# Altium integrated library ON Semi Zener Diodes.IntLib: 1366 symbols (part 17 of 29)
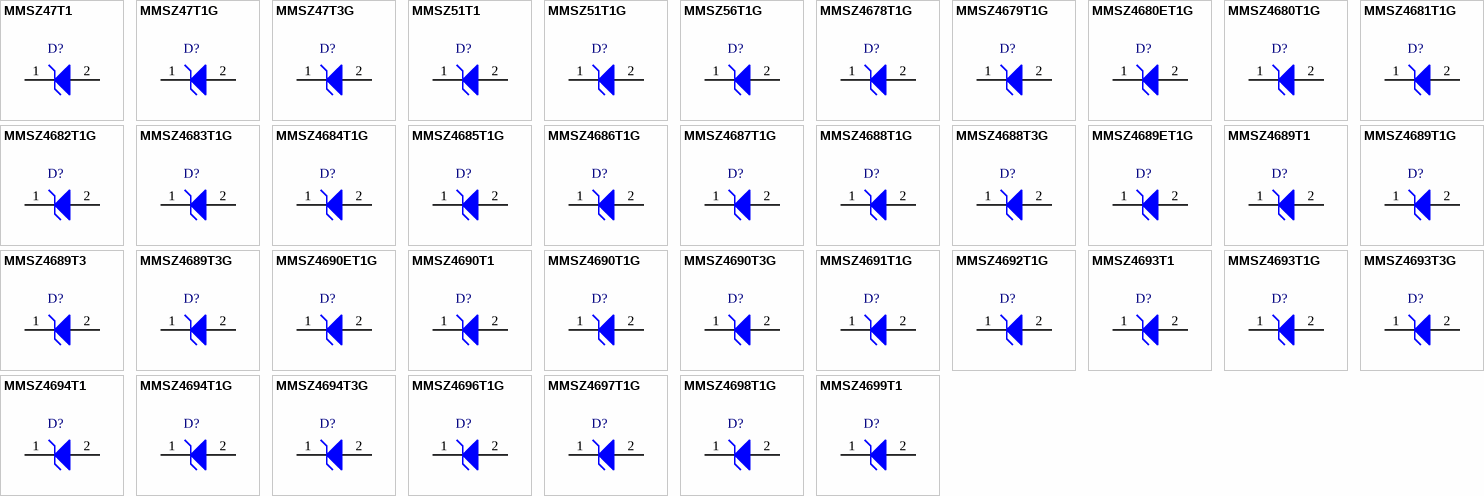
[diagram p60: symbols MMSZ47T1 to MMSZ4699T1]

## MMSZ4698T1G
designator D?
Zener Voltage Regulator, 500 mW, 2-Pin SOD-123, Pb-Free, Tape and Reel; Manufacturer: On Semiconductor; PartNumber: MMSZ4698T1G; P Max (W): 0.5; VZ Typ (V): 11; DatasheetVersion: Rev. 9; PackageVersion: Rev. G, 10/2009; PackageReference: SOD-123-2-425-04; PackageDescription: 2-Pin SOD, Body 1.6 x 2.69 mm; Supplier 1: Digi-Key; Supplier Part Number 1: MMSZ4698T1GOSTR-ND; Supplier 2: Digi-Key; Supplier Part Number 2: MMSZ4698T1GOSCT-ND; Supplier 3: Digi-Key; Supplier Part Number 3: MMSZ4698T1GOSDKR-ND; Supplier 4: Newark; Supplier Part Number 4: 26K4577; Supplier 5: Newark; Supplier Part Number 5: 10N9500; Supplier 6: Mouser; Supplier Part Number 6: 863-MMSZ4698T1G; Packing: Tape and Reel; RoHS: Pb-Free; Mounting Technology: Surface Mount; ComponentLink1Description: Manufacturer URL; ComponentLink1URL: http://www.onsemi.com/; ComponentLink2Description: Datasheet; ComponentLink2URL: http://www.onsemi.com/pub_link/Collateral/MMSZ4678T1-D.PDF; ComponentLink3Description: Package Specification; ComponentLink3URL: http://www.onsemi.com/pub_link/Collateral/425-04.PDF
footprint ONSC-SOD-123-2-425-04_V (SOD, 2-Leads, Body 2.69x1.6mm)
pins: 1 K, 2 A

## MMSZ4699T1
designator D?
Zener Voltage Regulator, 500 mW, 2-Pin SOD-123, Tape and Reel; Manufacturer: On Semiconductor; PartNumber: MMSZ4699T1; P Max (W): 0.5; VZ Typ (V): 12; DatasheetVersion: Rev. 9; PackageVersion: Rev. G, 10/2009; PackageReference: SOD-123-2-425-04; PackageDescription: 2-Pin SOD, Body 1.6 x 2.69 mm; Supplier 1: Digi-Key; Supplier Part Number 1: MMSZ4699T1OSCT-ND; Packing: Tape and Reel; Mounting Technology: Surface Mount; ComponentLink1Description: Manufacturer URL; ComponentLink1URL: http://www.onsemi.com/; ComponentLink2Description: Datasheet; ComponentLink2URL: http://www.onsemi.com/pub_link/Collateral/MMSZ4678T1-D.PDF; ComponentLink3Description: Package Specification; ComponentLink3URL: http://www.onsemi.com/pub_link/Collateral/425-04.PDF
footprint ONSC-SOD-123-2-425-04_V (SOD, 2-Leads, Body 2.69x1.6mm)
pins: 1 K, 2 A

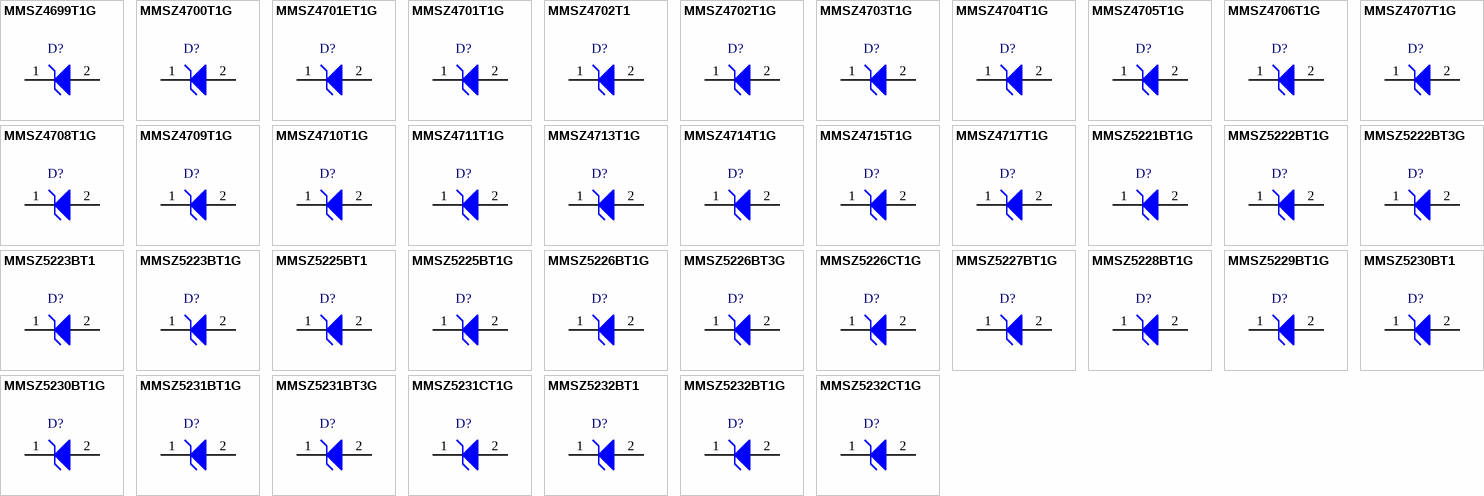
[diagram p24: symbols MMSZ4699T1G to MMSZ5232CT1G]

## MMSZ4699T1G
designator D?
Zener Voltage Regulator, 500 mW, 2-Pin SOD-123, Pb-Free, Tape and Reel; Manufacturer: On Semiconductor; PartNumber: MMSZ4699T1G; P Max (W): 0.5; VZ Typ (V): 12; DatasheetVersion: Rev. 9; PackageVersion: Rev. G, 10/2009; PackageReference: SOD-123-2-425-04; PackageDescription: 2-Pin SOD, Body 1.6 x 2.69 mm; Supplier 1: Digi-Key; Supplier Part Number 1: MMSZ4699T1GOSTR-ND; Supplier 2: Digi-Key; Supplier Part Number 2: MMSZ4699T1GOSCT-ND; Supplier 3: Digi-Key; Supplier Part Number 3: MMSZ4699T1GOSDKR-ND; Supplier 4: Farnell; Supplier Part Number 4: 1651593; Supplier 5: Farnell; Supplier Part Number 5: 1651593RL; Supplier 6: Farnell; Supplier Part Number 6: 2370824; Supplier 7: Newark; Supplier Part Number 7: 45J1585; Supplier 8: Newark; Supplier Part Number 8: 67R1366; Supplier 9: Mouser; Supplier Part Number 9: 863-MMSZ4699T1G; Packing: Tape and Reel; RoHS: Pb-Free; Mounting Technology: Surface Mount; ComponentLink1Description: Manufacturer URL; ComponentLink1URL: http://www.onsemi.com/; ComponentLink2Description: Datasheet; ComponentLink2URL: http://www.onsemi.com/pub_link/Collateral/MMSZ4678T1-D.PDF; ComponentLink3Description: Package Specification; ComponentLink3URL: http://www.onsemi.com/pub_link/Collateral/425-04.PDF
footprint ONSC-SOD-123-2-425-04_V (SOD, 2-Leads, Body 2.69x1.6mm)
pins: 1 K, 2 A

## MMSZ4700T1G
designator D?
Zener Voltage Regulator, 500 mW, 2-Pin SOD-123, Pb-Free, Tape and Reel; Manufacturer: On Semiconductor; PartNumber: MMSZ4700T1G; P Max (W): 0.5; VZ Typ (V): 13; DatasheetVersion: Rev. 9; PackageVersion: Rev. G, 10/2009; PackageReference: SOD-123-2-425-04; PackageDescription: 2-Pin SOD, Body 1.6 x 2.69 mm; Supplier 1: Digi-Key; Supplier Part Number 1: MMSZ4700T1GOSTR-ND; Supplier 2: Digi-Key; Supplier Part Number 2: MMSZ4700T1GOSCT-ND; Supplier 3: Digi-Key; Supplier Part Number 3: MMSZ4700T1GOSDKR-ND; Supplier 4: Newark; Supplier Part Number 4: 10N9501; Supplier 5: Newark; Supplier Part Number 5: 26K4578; Supplier 6: Mouser; Supplier Part Number 6: 863-MMSZ4700T1G; Packing: Tape and Reel; RoHS: Pb-Free; Mounting Technology: Surface Mount; ComponentLink1Description: Manufacturer URL; ComponentLink1URL: http://www.onsemi.com/; ComponentLink2Description: Datasheet; ComponentLink2URL: http://www.onsemi.com/pub_link/Collateral/MMSZ4678T1-D.PDF; ComponentLink3Description: Package Specification; ComponentLink3URL: http://www.onsemi.com/pub_link/Collateral/425-04.PDF
footprint ONSC-SOD-123-2-425-04_V (SOD, 2-Leads, Body 2.69x1.6mm)
pins: 1 K, 2 A

## MMSZ4701ET1G
designator D?
Zener Voltage Regulator, 500 mW, 2-Pin SOD-123, Pb-Free, Tape and Reel; Manufacturer: On Semiconductor; PartNumber: MMSZ4701ET1G; P Max (W): 0.5; VZ Typ (V): 14; DatasheetVersion: Rev. 6; PackageVersion: Rev. G, 10/2009; PackageReference: SOD-123-2-425-04; PackageDescription: 2-Pin SOD, Body 1.6 x 2.69 mm; Supplier 1: Digi-Key; Supplier Part Number 1: MMSZ4701ET1GOSTR-ND; Supplier 2: Digi-Key; Supplier Part Number 2: MMSZ4701ET1GOSCT-ND; Supplier 3: Mouser; Supplier Part Number 3: 863-MMSZ4701ET1G; Packing: Tape and Reel; RoHS: Pb-Free; Mounting Technology: Surface Mount; ComponentLink1Description: Manufacturer URL; ComponentLink1URL: http://www.onsemi.com/; ComponentLink2Description: Datasheet; ComponentLink2URL: http://www.onsemi.com/pub_link/Collateral/MMSZ4678ET1-D.PDF; ComponentLink3Description: Package Specification; ComponentLink3URL: http://www.onsemi.com/pub_link/Collateral/425-04.PDF
footprint ONSC-SOD-123-2-425-04_V (SOD, 2-Leads, Body 2.69x1.6mm)
pins: 1 K, 2 A

## MMSZ4701T1G
designator D?
Zener Voltage Regulator, 500 mW, 2-Pin SOD-123, Pb-Free, Tape and Reel; Manufacturer: On Semiconductor; PartNumber: MMSZ4701T1G; P Max (W): 0.5; VZ Typ (V): 14; DatasheetVersion: Rev. 9; PackageVersion: Rev. G, 10/2009; PackageReference: SOD-123-2-425-04; PackageDescription: 2-Pin SOD, Body 1.6 x 2.69 mm; Supplier 1: Digi-Key; Supplier Part Number 1: MMSZ4701T1GOSTR-ND; Supplier 2: Digi-Key; Supplier Part Number 2: MMSZ4701T1GOSCT-ND; Supplier 3: Digi-Key; Supplier Part Number 3: MMSZ4701T1GOSDKR-ND; Supplier 4: Newark; Supplier Part Number 4: 10N9502; Supplier 5: Newark; Supplier Part Number 5: 83H7402; Supplier 6: Mouser; Supplier Part Number 6: 863-MMSZ4701T1G; Packing: Tape and Reel; RoHS: Pb-Free; Mounting Technology: Surface Mount; ComponentLink1Description: Manufacturer URL; ComponentLink1URL: http://www.onsemi.com/; ComponentLink2Description: Datasheet; ComponentLink2URL: http://www.onsemi.com/pub_link/Collateral/MMSZ4678T1-D.PDF; ComponentLink3Description: Package Specification; ComponentLink3URL: http://www.onsemi.com/pub_link/Collateral/425-04.PDF
footprint ONSC-SOD-123-2-425-04_V (SOD, 2-Leads, Body 2.69x1.6mm)
pins: 1 K, 2 A

## MMSZ4702T1
designator D?
Zener Voltage Regulator, 500 mW, 2-Pin SOD-123, Tape and Reel; Manufacturer: On Semiconductor; PartNumber: MMSZ4702T1; P Max (W): 0.5; VZ Typ (V): 15; DatasheetVersion: Rev. 9; PackageVersion: Rev. G, 10/2009; PackageReference: SOD-123-2-425-04; PackageDescription: 2-Pin SOD, Body 1.6 x 2.69 mm; Supplier 1: Digi-Key; Supplier Part Number 1: MMSZ4702T1OSCT-ND; Packing: Tape and Reel; Mounting Technology: Surface Mount; ComponentLink1Description: Manufacturer URL; ComponentLink1URL: http://www.onsemi.com/; ComponentLink2Description: Datasheet; ComponentLink2URL: http://www.onsemi.com/pub_link/Collateral/MMSZ4678T1-D.PDF; ComponentLink3Description: Package Specification; ComponentLink3URL: http://www.onsemi.com/pub_link/Collateral/425-04.PDF
footprint ONSC-SOD-123-2-425-04_V (SOD, 2-Leads, Body 2.69x1.6mm)
pins: 1 K, 2 A

## MMSZ4702T1G
designator D?
Zener Voltage Regulator, 500 mW, 2-Pin SOD-123, Pb-Free, Tape and Reel; Manufacturer: On Semiconductor; PartNumber: MMSZ4702T1G; P Max (W): 0.5; VZ Typ (V): 15; DatasheetVersion: Rev. 9; PackageVersion: Rev. G, 10/2009; PackageReference: SOD-123-2-425-04; PackageDescription: 2-Pin SOD, Body 1.6 x 2.69 mm; Supplier 1: Digi-Key; Supplier Part Number 1: MMSZ4702T1GOSTR-ND; Supplier 2: Digi-Key; Supplier Part Number 2: MMSZ4702T1GOSCT-ND; Supplier 3: Digi-Key; Supplier Part Number 3: MMSZ4702T1GOSDKR-ND; Supplier 4: Farnell; Supplier Part Number 4: 2101824; Supplier 5: Newark; Supplier Part Number 5: 71J6027; Supplier 6: Mouser; Supplier Part Number 6: 863-MMSZ4702T1G; Packing: Tape and Reel; RoHS: Pb-Free; Mounting Technology: Surface Mount; ComponentLink1Description: Manufacturer URL; ComponentLink1URL: http://www.onsemi.com/; ComponentLink2Description: Datasheet; ComponentLink2URL: http://www.onsemi.com/pub_link/Collateral/MMSZ4678T1-D.PDF; ComponentLink3Description: Package Specification; ComponentLink3URL: http://www.onsemi.com/pub_link/Collateral/425-04.PDF
footprint ONSC-SOD-123-2-425-04_V (SOD, 2-Leads, Body 2.69x1.6mm)
pins: 1 K, 2 A

## MMSZ4703T1G
designator D?
Zener Voltage Regulator, 500 mW, 2-Pin SOD-123, Pb-Free, Tape and Reel; Manufacturer: On Semiconductor; PartNumber: MMSZ4703T1G; P Max (W): 0.5; VZ Typ (V): 16; DatasheetVersion: Rev. 9; PackageVersion: Rev. G, 10/2009; PackageReference: SOD-123-2-425-04; PackageDescription: 2-Pin SOD, Body 1.6 x 2.69 mm; Supplier 1: Digi-Key; Supplier Part Number 1: MMSZ4703T1GOSTR-ND; Supplier 2: Digi-Key; Supplier Part Number 2: MMSZ4703T1GOSCT-ND; Supplier 3: Digi-Key; Supplier Part Number 3: MMSZ4703T1GOSDKR-ND; Supplier 4: Farnell; Supplier Part Number 4: 1183550; Supplier 5: Newark; Supplier Part Number 5: 71J6028; Supplier 6: Mouser; Supplier Part Number 6: 863-MMSZ4703T1G; Packing: Tape and Reel; RoHS: Pb-Free; Mounting Technology: Surface Mount; ComponentLink1Description: Manufacturer URL; ComponentLink1URL: http://www.onsemi.com/; ComponentLink2Description: Datasheet; ComponentLink2URL: http://www.onsemi.com/pub_link/Collateral/MMSZ4678T1-D.PDF; ComponentLink3Description: Package Specification; ComponentLink3URL: http://www.onsemi.com/pub_link/Collateral/425-04.PDF
footprint ONSC-SOD-123-2-425-04_V (SOD, 2-Leads, Body 2.69x1.6mm)
pins: 1 K, 2 A

## MMSZ4704T1G
designator D?
Zener Voltage Regulator, 500 mW, 2-Pin SOD-123, Pb-Free, Tape and Reel; Manufacturer: On Semiconductor; PartNumber: MMSZ4704T1G; P Max (W): 0.5; VZ Typ (V): 17; DatasheetVersion: Rev. 9; PackageVersion: Rev. G, 10/2009; PackageReference: SOD-123-2-425-04; PackageDescription: 2-Pin SOD, Body 1.6 x 2.69 mm; Supplier 1: Digi-Key; Supplier Part Number 1: MMSZ4704T1GOSTR-ND; Supplier 2: Digi-Key; Supplier Part Number 2: MMSZ4704T1GOSCT-ND; Supplier 3: Digi-Key; Supplier Part Number 3: MMSZ4704T1GOSDKR-ND; Supplier 4: Newark; Supplier Part Number 4: 10N9503; Supplier 5: Newark; Supplier Part Number 5: 83H7403; Supplier 6: Mouser; Supplier Part Number 6: 863-MMSZ4704T1G; Packing: Tape and Reel; RoHS: Pb-Free; Mounting Technology: Surface Mount; ComponentLink1Description: Manufacturer URL; ComponentLink1URL: http://www.onsemi.com/; ComponentLink2Description: Datasheet; ComponentLink2URL: http://www.onsemi.com/pub_link/Collateral/MMSZ4678T1-D.PDF; ComponentLink3Description: Package Specification; ComponentLink3URL: http://www.onsemi.com/pub_link/Collateral/425-04.PDF
footprint ONSC-SOD-123-2-425-04_V (SOD, 2-Leads, Body 2.69x1.6mm)
pins: 1 K, 2 A

## MMSZ4705T1G
designator D?
Zener Voltage Regulator, 500 mW, 2-Pin SOD-123, Pb-Free, Tape and Reel; Manufacturer: On Semiconductor; PartNumber: MMSZ4705T1G; P Max (W): 0.5; VZ Typ (V): 18; DatasheetVersion: Rev. 9; PackageVersion: Rev. G, 10/2009; PackageReference: SOD-123-2-425-04; PackageDescription: 2-Pin SOD, Body 1.6 x 2.69 mm; Supplier 1: Digi-Key; Supplier Part Number 1: MMSZ4705T1GOSTR-ND; Supplier 2: Digi-Key; Supplier Part Number 2: MMSZ4705T1GOSCT-ND; Supplier 3: Digi-Key; Supplier Part Number 3: MMSZ4705T1GOSDKR-ND; Supplier 4: Newark; Supplier Part Number 4: 10N9504; Supplier 5: Newark; Supplier Part Number 5: 26K4580; Supplier 6: Mouser; Supplier Part Number 6: 863-MMSZ4705T1G; Packing: Tape and Reel; RoHS: Pb-Free; Mounting Technology: Surface Mount; ComponentLink1Description: Manufacturer URL; ComponentLink1URL: http://www.onsemi.com/; ComponentLink2Description: Datasheet; ComponentLink2URL: http://www.onsemi.com/pub_link/Collateral/MMSZ4678T1-D.PDF; ComponentLink3Description: Package Specification; ComponentLink3URL: http://www.onsemi.com/pub_link/Collateral/425-04.PDF
footprint ONSC-SOD-123-2-425-04_V (SOD, 2-Leads, Body 2.69x1.6mm)
pins: 1 K, 2 A

## MMSZ4706T1G
designator D?
Zener Voltage Regulator, 500 mW, 2-Pin SOD-123, Pb-Free, Tape and Reel; Manufacturer: On Semiconductor; PartNumber: MMSZ4706T1G; P Max (W): 0.5; VZ Typ (V): 19; DatasheetVersion: Rev. 9; PackageVersion: Rev. G, 10/2009; PackageReference: SOD-123-2-425-04; PackageDescription: 2-Pin SOD, Body 1.6 x 2.69 mm; Supplier 1: Digi-Key; Supplier Part Number 1: MMSZ4706T1GOSTR-ND; Supplier 2: Digi-Key; Supplier Part Number 2: MMSZ4706T1GOSCT-ND; Supplier 3: Digi-Key; Supplier Part Number 3: MMSZ4706T1GOSDKR-ND; Supplier 4: Farnell; Supplier Part Number 4: 1887090; Supplier 5: Newark; Supplier Part Number 5: 09R9483; Supplier 6: Newark; Supplier Part Number 6: 26K4581; Supplier 7: Mouser; Supplier Part Number 7: 863-MMSZ4706T1G; Packing: Tape and Reel; RoHS: Pb-Free; Mounting Technology: Surface Mount; ComponentLink1Description: Manufacturer URL; ComponentLink1URL: http://www.onsemi.com/; ComponentLink2Description: Datasheet; ComponentLink2URL: http://www.onsemi.com/pub_link/Collateral/MMSZ4678T1-D.PDF; ComponentLink3Description: Package Specification; ComponentLink3URL: http://www.onsemi.com/pub_link/Collateral/425-04.PDF
footprint ONSC-SOD-123-2-425-04_V (SOD, 2-Leads, Body 2.69x1.6mm)
pins: 1 K, 2 A

## MMSZ4707T1G
designator D?
Zener Voltage Regulator, 500 mW, 2-Pin SOD-123, Pb-Free, Tape and Reel; Manufacturer: On Semiconductor; PartNumber: MMSZ4707T1G; P Max (W): 0.5; VZ Typ (V): 20; DatasheetVersion: Rev. 9; PackageVersion: Rev. G, 10/2009; PackageReference: SOD-123-2-425-04; PackageDescription: 2-Pin SOD, Body 1.6 x 2.69 mm; Supplier 1: Digi-Key; Supplier Part Number 1: MMSZ4707T1GOSTR-ND; Supplier 2: Digi-Key; Supplier Part Number 2: MMSZ4707T1GOSCT-ND; Supplier 3: Digi-Key; Supplier Part Number 3: MMSZ4707T1GOSDKR-ND; Supplier 4: Newark; Supplier Part Number 4: 10N9505; Supplier 5: Mouser; Supplier Part Number 5: 863-MMSZ4707T1G; Packing: Tape and Reel; RoHS: Pb-Free; Mounting Technology: Surface Mount; ComponentLink1Description: Manufacturer URL; ComponentLink1URL: http://www.onsemi.com/; ComponentLink2Description: Datasheet; ComponentLink2URL: http://www.onsemi.com/pub_link/Collateral/MMSZ4678T1-D.PDF; ComponentLink3Description: Package Specification; ComponentLink3URL: http://www.onsemi.com/pub_link/Collateral/425-04.PDF
footprint ONSC-SOD-123-2-425-04_V (SOD, 2-Leads, Body 2.69x1.6mm)
pins: 1 K, 2 A

## MMSZ4708T1G
designator D?
Zener Voltage Regulator, 500 mW, 2-Pin SOD-123, Pb-Free, Tape and Reel; Manufacturer: On Semiconductor; PartNumber: MMSZ4708T1G; P Max (W): 0.5; VZ Typ (V): 22; DatasheetVersion: Rev. 9; PackageVersion: Rev. G, 10/2009; PackageReference: SOD-123-2-425-04; PackageDescription: 2-Pin SOD, Body 1.6 x 2.69 mm; Supplier 1: Digi-Key; Supplier Part Number 1: MMSZ4708T1GOSTR-ND; Supplier 2: Digi-Key; Supplier Part Number 2: MMSZ4708T1GOSCT-ND; Supplier 3: Digi-Key; Supplier Part Number 3: MMSZ4708T1GOSDKR-ND; Supplier 4: Newark; Supplier Part Number 4: 26K4583; Supplier 5: Mouser; Supplier Part Number 5: 863-MMSZ4708T1G; Packing: Tape and Reel; RoHS: Pb-Free; Mounting Technology: Surface Mount; ComponentLink1Description: Manufacturer URL; ComponentLink1URL: http://www.onsemi.com/; ComponentLink2Description: Datasheet; ComponentLink2URL: http://www.onsemi.com/pub_link/Collateral/MMSZ4678T1-D.PDF; ComponentLink3Description: Package Specification; ComponentLink3URL: http://www.onsemi.com/pub_link/Collateral/425-04.PDF
footprint ONSC-SOD-123-2-425-04_V (SOD, 2-Leads, Body 2.69x1.6mm)
pins: 1 K, 2 A

## MMSZ4709T1G
designator D?
Zener Voltage Regulator, 500 mW, 2-Pin SOD-123, Pb-Free, Tape and Reel; Manufacturer: On Semiconductor; PartNumber: MMSZ4709T1G; P Max (W): 0.5; VZ Typ (V): 24; DatasheetVersion: Rev. 9; PackageVersion: Rev. G, 10/2009; PackageReference: SOD-123-2-425-04; PackageDescription: 2-Pin SOD, Body 1.6 x 2.69 mm; Supplier 1: Digi-Key; Supplier Part Number 1: MMSZ4709T1GOSTR-ND; Supplier 2: Digi-Key; Supplier Part Number 2: MMSZ4709T1GOSCT-ND; Supplier 3: Digi-Key; Supplier Part Number 3: MMSZ4709T1GOSDKR-ND; Supplier 4: Farnell; Supplier Part Number 4: 1887091; Supplier 5: Newark; Supplier Part Number 5: 45J1586; Supplier 6: Newark; Supplier Part Number 6: 09R9485; Supplier 7: Mouser; Supplier Part Number 7: 863-MMSZ4709T1G; Packing: Tape and Reel; RoHS: Pb-Free; Mounting Technology: Surface Mount; ComponentLink1Description: Manufacturer URL; ComponentLink1URL: http://www.onsemi.com/; ComponentLink2Description: Datasheet; ComponentLink2URL: http://www.onsemi.com/pub_link/Collateral/MMSZ4678T1-D.PDF; ComponentLink3Description: Package Specification; ComponentLink3URL: http://www.onsemi.com/pub_link/Collateral/425-04.PDF
footprint ONSC-SOD-123-2-425-04_V (SOD, 2-Leads, Body 2.69x1.6mm)
pins: 1 K, 2 A

## MMSZ4710T1G
designator D?
Zener Voltage Regulator, 500 mW, 2-Pin SOD-123, Pb-Free, Tape and Reel; Manufacturer: On Semiconductor; PartNumber: MMSZ4710T1G; P Max (W): 0.5; VZ Typ (V): 25; DatasheetVersion: Rev. 9; PackageVersion: Rev. G, 10/2009; PackageReference: SOD-123-2-425-04; PackageDescription: 2-Pin SOD, Body 1.6 x 2.69 mm; Supplier 1: Digi-Key; Supplier Part Number 1: MMSZ4710T1G-ND; Supplier 2: Newark; Supplier Part Number 2: 26K4584; Supplier 3: Mouser; Supplier Part Number 3: 863-MMSZ4710T1G; Packing: Tape and Reel; RoHS: Pb-Free; Mounting Technology: Surface Mount; ComponentLink1Description: Manufacturer URL; ComponentLink1URL: http://www.onsemi.com/; ComponentLink2Description: Datasheet; ComponentLink2URL: http://www.onsemi.com/pub_link/Collateral/MMSZ4678T1-D.PDF; ComponentLink3Description: Package Specification; ComponentLink3URL: http://www.onsemi.com/pub_link/Collateral/425-04.PDF
footprint ONSC-SOD-123-2-425-04_V (SOD, 2-Leads, Body 2.69x1.6mm)
pins: 1 K, 2 A

## MMSZ4711T1G
designator D?
Zener Voltage Regulator, 500 mW, 2-Pin SOD-123, Pb-Free, Tape and Reel; Manufacturer: On Semiconductor; PartNumber: MMSZ4711T1G; P Max (W): 0.5; VZ Typ (V): 27; DatasheetVersion: Rev. 9; PackageVersion: Rev. G, 10/2009; PackageReference: SOD-123-2-425-04; PackageDescription: 2-Pin SOD, Body 1.6 x 2.69 mm; Supplier 1: Digi-Key; Supplier Part Number 1: MMSZ4711T1GOSTR-ND; Supplier 2: Digi-Key; Supplier Part Number 2: MMSZ4711T1GOSCT-ND; Supplier 3: Digi-Key; Supplier Part Number 3: MMSZ4711T1GOSDKR-ND; Supplier 4: Farnell; Supplier Part Number 4: 1705572; Supplier 5: Newark; Supplier Part Number 5: 10N9506; Supplier 6: Newark; Supplier Part Number 6: 26K4585; Supplier 7: Mouser; Supplier Part Number 7: 863-MMSZ4711T1G; Packing: Tape and Reel; RoHS: Pb-Free; Mounting Technology: Surface Mount; ComponentLink1Description: Manufacturer URL; ComponentLink1URL: http://www.onsemi.com/; ComponentLink2Description: Datasheet; ComponentLink2URL: http://www.onsemi.com/pub_link/Collateral/MMSZ4678T1-D.PDF; ComponentLink3Description: Package Specification; ComponentLink3URL: http://www.onsemi.com/pub_link/Collateral/425-04.PDF
footprint ONSC-SOD-123-2-425-04_V (SOD, 2-Leads, Body 2.69x1.6mm)
pins: 1 K, 2 A

## MMSZ4713T1G
designator D?
Zener Voltage Regulator, 500 mW, 2-Pin SOD-123, Pb-Free, Tape and Reel; Manufacturer: On Semiconductor; PartNumber: MMSZ4713T1G; P Max (W): 0.5; VZ Typ (V): 30; DatasheetVersion: Rev. 9; PackageVersion: Rev. G, 10/2009; PackageReference: SOD-123-2-425-04; PackageDescription: 2-Pin SOD, Body 1.6 x 2.69 mm; Supplier 1: Digi-Key; Supplier Part Number 1: MMSZ4713T1GOSTR-ND; Supplier 2: Digi-Key; Supplier Part Number 2: MMSZ4713T1GOSCT-ND; Supplier 3: Digi-Key; Supplier Part Number 3: MMSZ4713T1GOSDKR-ND; Supplier 4: Farnell; Supplier Part Number 4: 1887092; Supplier 5: Newark; Supplier Part Number 5: 09R9487; Supplier 6: Newark; Supplier Part Number 6: 71J6029; Supplier 7: Mouser; Supplier Part Number 7: 863-MMSZ4713T1G; Packing: Tape and Reel; RoHS: Pb-Free; Mounting Technology: Surface Mount; ComponentLink1Description: Manufacturer URL; ComponentLink1URL: http://www.onsemi.com/; ComponentLink2Description: Datasheet; ComponentLink2URL: http://www.onsemi.com/pub_link/Collateral/MMSZ4678T1-D.PDF; ComponentLink3Description: Package Specification; ComponentLink3URL: http://www.onsemi.com/pub_link/Collateral/425-04.PDF
footprint ONSC-SOD-123-2-425-04_V (SOD, 2-Leads, Body 2.69x1.6mm)
pins: 1 K, 2 A

## MMSZ4714T1G
designator D?
Zener Voltage Regulator, 500 mW, 2-Pin SOD-123, Pb-Free, Tape and Reel; Manufacturer: On Semiconductor; PartNumber: MMSZ4714T1G; P Max (W): 0.5; VZ Typ (V): 33; DatasheetVersion: Rev. 9; PackageVersion: Rev. G, 10/2009; PackageReference: SOD-123-2-425-04; PackageDescription: 2-Pin SOD, Body 1.6 x 2.69 mm; Supplier 1: Digi-Key; Supplier Part Number 1: MMSZ4714T1GOSTR-ND; Supplier 2: Digi-Key; Supplier Part Number 2: MMSZ4714T1GOSCT-ND; Supplier 3: Digi-Key; Supplier Part Number 3: MMSZ4714T1GOSDKR-ND; Supplier 4: Newark; Supplier Part Number 4: 10N9507; Supplier 5: Newark; Supplier Part Number 5: 26K4586; Supplier 6: Mouser; Supplier Part Number 6: 863-MMSZ4714T1G; Packing: Tape and Reel; RoHS: Pb-Free; Mounting Technology: Surface Mount; ComponentLink1Description: Manufacturer URL; ComponentLink1URL: http://www.onsemi.com/; ComponentLink2Description: Datasheet; ComponentLink2URL: http://www.onsemi.com/pub_link/Collateral/MMSZ4678T1-D.PDF; ComponentLink3Description: Package Specification; ComponentLink3URL: http://www.onsemi.com/pub_link/Collateral/425-04.PDF
footprint ONSC-SOD-123-2-425-04_V (SOD, 2-Leads, Body 2.69x1.6mm)
pins: 1 K, 2 A

## MMSZ4715T1G
designator D?
Zener Voltage Regulator, 500 mW, 2-Pin SOD-123, Pb-Free, Tape and Reel; Manufacturer: On Semiconductor; PartNumber: MMSZ4715T1G; P Max (W): 0.5; VZ Typ (V): 36; DatasheetVersion: Rev. 9; PackageVersion: Rev. G, 10/2009; PackageReference: SOD-123-2-425-04; PackageDescription: 2-Pin SOD, Body 1.6 x 2.69 mm; Supplier 1: Digi-Key; Supplier Part Number 1: MMSZ4715T1GOSTR-ND; Supplier 2: Digi-Key; Supplier Part Number 2: MMSZ4715T1GOSCT-ND; Supplier 3: Digi-Key; Supplier Part Number 3: MMSZ4715T1GOSDKR-ND; Supplier 4: Newark; Supplier Part Number 4: 26K4587; Supplier 5: Newark; Supplier Part Number 5: 10N9508; Supplier 6: Mouser; Supplier Part Number 6: 863-MMSZ4715T1G; Packing: Tape and Reel; RoHS: Pb-Free; Mounting Technology: Surface Mount; ComponentLink1Description: Manufacturer URL; ComponentLink1URL: http://www.onsemi.com/; ComponentLink2Description: Datasheet; ComponentLink2URL: http://www.onsemi.com/pub_link/Collateral/MMSZ4678T1-D.PDF; ComponentLink3Description: Package Specification; ComponentLink3URL: http://www.onsemi.com/pub_link/Collateral/425-04.PDF
footprint ONSC-SOD-123-2-425-04_V (SOD, 2-Leads, Body 2.69x1.6mm)
pins: 1 K, 2 A

## MMSZ4717T1G
designator D?
Zener Voltage Regulator, 500 mW, 2-Pin SOD-123, Pb-Free, Tape and Reel; Manufacturer: On Semiconductor; PartNumber: MMSZ4717T1G; P Max (W): 0.5; VZ Typ (V): 43; DatasheetVersion: Rev. 9; PackageVersion: Rev. G, 10/2009; PackageReference: SOD-123-2-425-04; PackageDescription: 2-Pin SOD, Body 1.6 x 2.69 mm; Supplier 1: Digi-Key; Supplier Part Number 1: MMSZ4717T1GOSTR-ND; Supplier 2: Digi-Key; Supplier Part Number 2: MMSZ4717T1GOSCT-ND; Supplier 3: Digi-Key; Supplier Part Number 3: MMSZ4717T1GOSDKR-ND; Supplier 4: Newark; Supplier Part Number 4: 10N9509; Supplier 5: Newark; Supplier Part Number 5: 26K4589; Supplier 6: Mouser; Supplier Part Number 6: 863-MMSZ4717T1G; Packing: Tape and Reel; RoHS: Pb-Free; Mounting Technology: Surface Mount; ComponentLink1Description: Manufacturer URL; ComponentLink1URL: http://www.onsemi.com/; ComponentLink2Description: Datasheet; ComponentLink2URL: http://www.onsemi.com/pub_link/Collateral/MMSZ4678T1-D.PDF; ComponentLink3Description: Package Specification; ComponentLink3URL: http://www.onsemi.com/pub_link/Collateral/425-04.PDF
footprint ONSC-SOD-123-2-425-04_V (SOD, 2-Leads, Body 2.69x1.6mm)
pins: 1 K, 2 A

## MMSZ5221BT1G
designator D?
Zener Voltage Regulator, 500 mW, 2-Pin SOD-123, Pb-Free, Tape and Reel; Manufacturer: On Semiconductor; PartNumber: MMSZ5221BT1G; P Max (W): 0.5; VZ Typ (V): 2.4; DatasheetVersion: Rev. 12; PackageVersion: Rev. G, 10/2009; PackageReference: SOD-123-2-425-04; PackageDescription: 2-Pin SOD, Body 1.6 x 2.69 mm; Supplier 1: Digi-Key; Supplier Part Number 1: MMSZ5221BT1GOSTR-ND; Supplier 2: Digi-Key; Supplier Part Number 2: MMSZ5221BT1GOSCT-ND; Supplier 3: Digi-Key; Supplier Part Number 3: MMSZ5221BT1GOSDKR-ND; Supplier 4: Farnell; Supplier Part Number 4: 1431268RL; Supplier 5: Farnell; Supplier Part Number 5: 1431268; Supplier 6: Newark; Supplier Part Number 6: 83H7409; Supplier 7: Mouser; Supplier Part Number 7: 863-MMSZ5221BT1G; Packing: Tape and Reel; RoHS: Pb-Free; Mounting Technology: Surface Mount; ComponentLink1Description: Manufacturer URL; ComponentLink1URL: http://www.onsemi.com/; ComponentLink2Description: Datasheet; ComponentLink2URL: http://www.onsemi.com/pub_link/Collateral/MMSZ5221BT1-D.PDF; ComponentLink3Description: Package Specification; ComponentLink3URL: http://www.onsemi.com/pub_link/Collateral/425-04.PDF
footprint ONSC-SOD-123-2-425-04_V (SOD, 2-Leads, Body 2.69x1.6mm)
pins: 1 K, 2 A

## MMSZ5222BT1G
designator D?
Zener Voltage Regulator, 500 mW, 2-Pin SOD-123, Pb-Free, Tape and Reel; Manufacturer: On Semiconductor; PartNumber: MMSZ5222BT1G; P Max (W): 0.5; VZ Typ (V): 2.5; DatasheetVersion: Rev. 12; PackageVersion: Rev. G, 10/2009; PackageReference: SOD-123-2-425-04; PackageDescription: 2-Pin SOD, Body 1.6 x 2.69 mm; Supplier 1: Digi-Key; Supplier Part Number 1: MMSZ5222BT1GOSTR-ND; Supplier 2: Digi-Key; Supplier Part Number 2: MMSZ5222BT1GOSCT-ND; Supplier 3: Digi-Key; Supplier Part Number 3: MMSZ5222BT1GOSDKR-ND; Supplier 4: Farnell; Supplier Part Number 4: 1651594RL; Supplier 5: Farnell; Supplier Part Number 5: 1651594; Supplier 6: Newark; Supplier Part Number 6: 26K4591; Supplier 7: Mouser; Supplier Part Number 7: 863-MMSZ5222BT1G; Packing: Tape and Reel; RoHS: Pb-Free; Mounting Technology: Surface Mount; ComponentLink1Description: Manufacturer URL; ComponentLink1URL: http://www.onsemi.com/; ComponentLink2Description: Datasheet; ComponentLink2URL: http://www.onsemi.com/pub_link/Collateral/MMSZ5221BT1-D.PDF; ComponentLink3Description: Package Specification; ComponentLink3URL: http://www.onsemi.com/pub_link/Collateral/425-04.PDF
footprint ONSC-SOD-123-2-425-04_V (SOD, 2-Leads, Body 2.69x1.6mm)
pins: 1 K, 2 A

## MMSZ5222BT3G
designator D?
Zener Voltage Regulator, 500 mW, 2-Pin SOD-123, Pb-Free, Tape and Reel; Manufacturer: On Semiconductor; PartNumber: MMSZ5222BT3G; P Max (W): 0.5; VZ Typ (V): 2.5; DatasheetVersion: Rev. 12; PackageVersion: Rev. G, 10/2009; PackageReference: SOD-123-2-425-04; PackageDescription: 2-Pin SOD, Body 1.6 x 2.69 mm; Supplier 1: Digi-Key; Supplier Part Number 1: MMSZ5222BT3G-ND; Supplier 2: Mouser; Supplier Part Number 2: 863-MMSZ5222BT3G; Packing: Tape and Reel; RoHS: Pb-Free; Mounting Technology: Surface Mount; ComponentLink1Description: Manufacturer URL; ComponentLink1URL: http://www.onsemi.com/; ComponentLink2Description: Datasheet; ComponentLink2URL: http://www.onsemi.com/pub_link/Collateral/MMSZ5221BT1-D.PDF; ComponentLink3Description: Package Specification; ComponentLink3URL: http://www.onsemi.com/pub_link/Collateral/425-04.PDF
footprint ONSC-SOD-123-2-425-04_V (SOD, 2-Leads, Body 2.69x1.6mm)
pins: 1 K, 2 A

## MMSZ5223BT1
designator D?
Zener Voltage Regulator, 500 mW, 2-Pin SOD-123, Tape and Reel; Manufacturer: On Semiconductor; PartNumber: MMSZ5223BT1; P Max (W): 0.5; VZ Typ (V): 2.7; DatasheetVersion: Rev. 12; PackageVersion: Rev. G, 10/2009; PackageReference: SOD-123-2-425-04; PackageDescription: 2-Pin SOD, Body 1.6 x 2.69 mm; Supplier 1: Digi-Key; Supplier Part Number 1: MMSZ5223BT1OSCT-ND; Packing: Tape and Reel; Mounting Technology: Surface Mount; ComponentLink1Description: Manufacturer URL; ComponentLink1URL: http://www.onsemi.com/; ComponentLink2Description: Datasheet; ComponentLink2URL: http://www.onsemi.com/pub_link/Collateral/MMSZ5221BT1-D.PDF; ComponentLink3Description: Package Specification; ComponentLink3URL: http://www.onsemi.com/pub_link/Collateral/425-04.PDF
footprint ONSC-SOD-123-2-425-04_V (SOD, 2-Leads, Body 2.69x1.6mm)
pins: 1 K, 2 A

## MMSZ5223BT1G
designator D?
Zener Voltage Regulator, 500 mW, 2-Pin SOD-123, Pb-Free, Tape and Reel; Manufacturer: On Semiconductor; PartNumber: MMSZ5223BT1G; P Max (W): 0.5; VZ Typ (V): 2.7; DatasheetVersion: Rev. 12; PackageVersion: Rev. G, 10/2009; PackageReference: SOD-123-2-425-04; PackageDescription: 2-Pin SOD, Body 1.6 x 2.69 mm; Supplier 1: Digi-Key; Supplier Part Number 1: MMSZ5223BT1GOSTR-ND; Supplier 2: Digi-Key; Supplier Part Number 2: MMSZ5223BT1GOSCT-ND; Supplier 3: Digi-Key; Supplier Part Number 3: MMSZ5223BT1GOSDKR-ND; Supplier 4: Newark; Supplier Part Number 4: 45J1589; Supplier 5: Newark; Supplier Part Number 5: 10N9510; Supplier 6: Mouser; Supplier Part Number 6: 863-MMSZ5223BT1G; Packing: Tape and Reel; RoHS: Pb-Free; Mounting Technology: Surface Mount; ComponentLink1Description: Manufacturer URL; ComponentLink1URL: http://www.onsemi.com/; ComponentLink2Description: Datasheet; ComponentLink2URL: http://www.onsemi.com/pub_link/Collateral/MMSZ5221BT1-D.PDF; ComponentLink3Description: Package Specification; ComponentLink3URL: http://www.onsemi.com/pub_link/Collateral/425-04.PDF
footprint ONSC-SOD-123-2-425-04_V (SOD, 2-Leads, Body 2.69x1.6mm)
pins: 1 K, 2 A

## MMSZ5225BT1
designator D?
Zener Voltage Regulator, 500 mW, 2-Pin SOD-123, Tape and Reel; Manufacturer: On Semiconductor; PartNumber: MMSZ5225BT1; P Max (W): 0.5; VZ Typ (V): 3; DatasheetVersion: Rev. 12; PackageVersion: Rev. G, 10/2009; PackageReference: SOD-123-2-425-04; PackageDescription: 2-Pin SOD, Body 1.6 x 2.69 mm; Supplier 1: Digi-Key; Supplier Part Number 1: MMSZ5225BT1OSTR-ND; Supplier 2: Digi-Key; Supplier Part Number 2: MMSZ5225BT1OSCT-ND; Packing: Tape and Reel; Mounting Technology: Surface Mount; ComponentLink1Description: Manufacturer URL; ComponentLink1URL: http://www.onsemi.com/; ComponentLink2Description: Datasheet; ComponentLink2URL: http://www.onsemi.com/pub_link/Collateral/MMSZ5221BT1-D.PDF; ComponentLink3Description: Package Specification; ComponentLink3URL: http://www.onsemi.com/pub_link/Collateral/425-04.PDF
footprint ONSC-SOD-123-2-425-04_V (SOD, 2-Leads, Body 2.69x1.6mm)
pins: 1 K, 2 A

## MMSZ5225BT1G
designator D?
Zener Voltage Regulator, 500 mW, 2-Pin SOD-123, Pb-Free, Tape and Reel; Manufacturer: On Semiconductor; PartNumber: MMSZ5225BT1G; P Max (W): 0.5; VZ Typ (V): 3; DatasheetVersion: Rev. 12; PackageVersion: Rev. G, 10/2009; PackageReference: SOD-123-2-425-04; PackageDescription: 2-Pin SOD, Body 1.6 x 2.69 mm; Supplier 1: Digi-Key; Supplier Part Number 1: MMSZ5225BT1GOSTR-ND; Supplier 2: Digi-Key; Supplier Part Number 2: MMSZ5225BT1GOSCT-ND; Supplier 3: Digi-Key; Supplier Part Number 3: MMSZ5225BT1GOSDKR-ND; Supplier 4: Farnell; Supplier Part Number 4: 1651595; Supplier 5: Farnell; Supplier Part Number 5: 1651595RL; Supplier 6: Newark; Supplier Part Number 6: 83H7414; Supplier 7: Mouser; Supplier Part Number 7: 863-MMSZ5225BT1G; Packing: Tape and Reel; RoHS: Pb-Free; Mounting Technology: Surface Mount; ComponentLink1Description: Manufacturer URL; ComponentLink1URL: http://www.onsemi.com/; ComponentLink2Description: Datasheet; ComponentLink2URL: http://www.onsemi.com/pub_link/Collateral/MMSZ5221BT1-D.PDF; ComponentLink3Description: Package Specification; ComponentLink3URL: http://www.onsemi.com/pub_link/Collateral/425-04.PDF
footprint ONSC-SOD-123-2-425-04_V (SOD, 2-Leads, Body 2.69x1.6mm)
pins: 1 K, 2 A

## MMSZ5226BT1G
designator D?
Zener Voltage Regulator, 500 mW, 2-Pin SOD-123, Pb-Free, Tape and Reel; Manufacturer: On Semiconductor; PartNumber: MMSZ5226BT1G; P Max (W): 0.5; VZ Typ (V): 3.3; DatasheetVersion: Rev. 12; PackageVersion: Rev. G, 10/2009; PackageReference: SOD-123-2-425-04; PackageDescription: 2-Pin SOD, Body 1.6 x 2.69 mm; Supplier 1: Digi-Key; Supplier Part Number 1: MMSZ5226BT1GOSTR-ND; Supplier 2: Digi-Key; Supplier Part Number 2: MMSZ5226BT1GOSCT-ND; Supplier 3: Digi-Key; Supplier Part Number 3: MMSZ5226BT1GOSDKR-ND; Supplier 4: Farnell; Supplier Part Number 4: 1431269; Supplier 5: Farnell; Supplier Part Number 5: 1431269RL; Supplier 6: Farnell; Supplier Part Number 6: 2370825; Supplier 7: Newark; Supplier Part Number 7: 67R1367; Supplier 8: Newark; Supplier Part Number 8: 45J1591; Supplier 9: Mouser; Supplier Part Number 9: 863-MMSZ5226BT1G; Packing: Tape and Reel; RoHS: Pb-Free; Mounting Technology: Surface Mount; ComponentLink1Description: Manufacturer URL; ComponentLink1URL: http://www.onsemi.com/; ComponentLink2Description: Datasheet; ComponentLink2URL: http://www.onsemi.com/pub_link/Collateral/MMSZ5221BT1-D.PDF; ComponentLink3Description: Package Specification; ComponentLink3URL: http://www.onsemi.com/pub_link/Collateral/425-04.PDF
footprint ONSC-SOD-123-2-425-04_V (SOD, 2-Leads, Body 2.69x1.6mm)
pins: 1 K, 2 A

## MMSZ5226BT3G
designator D?
Zener Voltage Regulator, 500 mW, 2-Pin SOD-123, Pb-Free, Tape and Reel; Manufacturer: On Semiconductor; PartNumber: MMSZ5226BT3G; P Max (W): 0.5; VZ Typ (V): 3.3; DatasheetVersion: Rev. 12; PackageVersion: Rev. G, 10/2009; PackageReference: SOD-123-2-425-04; PackageDescription: 2-Pin SOD, Body 1.6 x 2.69 mm; Supplier 1: Digi-Key; Supplier Part Number 1: MMSZ5226BT3G-ND; Supplier 2: Mouser; Supplier Part Number 2: 863-MMSZ5226BT3G; Packing: Tape and Reel; RoHS: Pb-Free; Mounting Technology: Surface Mount; ComponentLink1Description: Manufacturer URL; ComponentLink1URL: http://www.onsemi.com/; ComponentLink2Description: Datasheet; ComponentLink2URL: http://www.onsemi.com/pub_link/Collateral/MMSZ5221BT1-D.PDF; ComponentLink3Description: Package Specification; ComponentLink3URL: http://www.onsemi.com/pub_link/Collateral/425-04.PDF
footprint ONSC-SOD-123-2-425-04_V (SOD, 2-Leads, Body 2.69x1.6mm)
pins: 1 K, 2 A

## MMSZ5226CT1G
designator D?
Zener Voltage Regulator, 500 mW, 2-Pin SOD-123, Pb-Free, Tape and Reel; Manufacturer: On Semiconductor; PartNumber: MMSZ5226CT1G; P Max (W): 0.5; VZ Typ (V): 3.3; DatasheetVersion: Rev. 12; PackageVersion: Rev. G, 10/2009; PackageReference: SOD-123-2-425-04; PackageDescription: 2-Pin SOD, Body 1.6 x 2.69 mm; Supplier 1: Digi-Key; Supplier Part Number 1: MMSZ5226CT1G-ND; Supplier 2: Newark; Supplier Part Number 2: 07W7133; Supplier 3: Mouser; Supplier Part Number 3: 863-MMSZ5226CT1G; Packing: Tape and Reel; RoHS: Pb-Free; Mounting Technology: Surface Mount; ComponentLink1Description: Manufacturer URL; ComponentLink1URL: http://www.onsemi.com/; ComponentLink2Description: Datasheet; ComponentLink2URL: http://www.onsemi.com/pub_link/Collateral/MMSZ5221BT1-D.PDF; ComponentLink3Description: Package Specification; ComponentLink3URL: http://www.onsemi.com/pub_link/Collateral/425-04.PDF
footprint ONSC-SOD-123-2-425-04_V (SOD, 2-Leads, Body 2.69x1.6mm)
pins: 1 K, 2 A

## MMSZ5227BT1G
designator D?
Zener Voltage Regulator, 500 mW, 2-Pin SOD-123, Pb-Free, Tape and Reel; Manufacturer: On Semiconductor; PartNumber: MMSZ5227BT1G; P Max (W): 0.5; VZ Typ (V): 3.6; DatasheetVersion: Rev. 12; PackageVersion: Rev. G, 10/2009; PackageReference: SOD-123-2-425-04; PackageDescription: 2-Pin SOD, Body 1.6 x 2.69 mm; Supplier 1: Digi-Key; Supplier Part Number 1: MMSZ5227BT1GOSTR-ND; Supplier 2: Digi-Key; Supplier Part Number 2: MMSZ5227BT1GOSCT-ND; Supplier 3: Digi-Key; Supplier Part Number 3: MMSZ5227BT1GOSDKR-ND; Supplier 4: Newark; Supplier Part Number 4: 45J1592; Supplier 5: Mouser; Supplier Part Number 5: 863-MMSZ5227BT1G; Packing: Tape and Reel; RoHS: Pb-Free; Mounting Technology: Surface Mount; ComponentLink1Description: Manufacturer URL; ComponentLink1URL: http://www.onsemi.com/; ComponentLink2Description: Datasheet; ComponentLink2URL: http://www.onsemi.com/pub_link/Collateral/MMSZ5221BT1-D.PDF; ComponentLink3Description: Package Specification; ComponentLink3URL: http://www.onsemi.com/pub_link/Collateral/425-04.PDF
footprint ONSC-SOD-123-2-425-04_V (SOD, 2-Leads, Body 2.69x1.6mm)
pins: 1 K, 2 A

## MMSZ5228BT1G
designator D?
Zener Voltage Regulator, 500 mW, 2-Pin SOD-123, Pb-Free, Tape and Reel; Manufacturer: On Semiconductor; PartNumber: MMSZ5228BT1G; P Max (W): 0.5; VZ Typ (V): 3.9; DatasheetVersion: Rev. 12; PackageVersion: Rev. G, 10/2009; PackageReference: SOD-123-2-425-04; PackageDescription: 2-Pin SOD, Body 1.6 x 2.69 mm; Supplier 1: Digi-Key; Supplier Part Number 1: MMSZ5228BT1GOSTR-ND; Supplier 2: Digi-Key; Supplier Part Number 2: MMSZ5228BT1GOSCT-ND; Supplier 3: Digi-Key; Supplier Part Number 3: MMSZ5228BT1GOSDKR-ND; Supplier 4: Farnell; Supplier Part Number 4: 1431271; Supplier 5: Farnell; Supplier Part Number 5: 1431271RL; Supplier 6: Farnell; Supplier Part Number 6: 2369434; Supplier 7: Newark; Supplier Part Number 7: 45J1593; Supplier 8: Newark; Supplier Part Number 8: 10N9511; Supplier 9: Mouser; Supplier Part Number 9: 863-MMSZ5228BT1G; Packing: Tape and Reel; RoHS: Pb-Free; Mounting Technology: Surface Mount; ComponentLink1Description: Manufacturer URL; ComponentLink1URL: http://www.onsemi.com/; ComponentLink2Description: Datasheet; ComponentLink2URL: http://www.onsemi.com/pub_link/Collateral/MMSZ5221BT1-D.PDF; ComponentLink3Description: Package Specification; ComponentLink3URL: http://www.onsemi.com/pub_link/Collateral/425-04.PDF
footprint ONSC-SOD-123-2-425-04_V (SOD, 2-Leads, Body 2.69x1.6mm)
pins: 1 K, 2 A

## MMSZ5229BT1G
designator D?
Zener Voltage Regulator, 500 mW, 2-Pin SOD-123, Pb-Free, Tape and Reel; Manufacturer: On Semiconductor; PartNumber: MMSZ5229BT1G; P Max (W): 0.5; VZ Typ (V): 4.3; DatasheetVersion: Rev. 12; PackageVersion: Rev. G, 10/2009; PackageReference: SOD-123-2-425-04; PackageDescription: 2-Pin SOD, Body 1.6 x 2.69 mm; Supplier 1: Digi-Key; Supplier Part Number 1: MMSZ5229BT1GOSTR-ND; Supplier 2: Digi-Key; Supplier Part Number 2: MMSZ5229BT1GOSCT-ND; Supplier 3: Digi-Key; Supplier Part Number 3: MMSZ5229BT1GOSDKR-ND; Supplier 4: Farnell; Supplier Part Number 4: 1459125RL; Supplier 5: Farnell; Supplier Part Number 5: 1459125; Supplier 6: Mouser; Supplier Part Number 6: 863-MMSZ5229BT1G; Packing: Tape and Reel; RoHS: Pb-Free; Mounting Technology: Surface Mount; ComponentLink1Description: Manufacturer URL; ComponentLink1URL: http://www.onsemi.com/; ComponentLink2Description: Datasheet; ComponentLink2URL: http://www.onsemi.com/pub_link/Collateral/MMSZ5221BT1-D.PDF; ComponentLink3Description: Package Specification; ComponentLink3URL: http://www.onsemi.com/pub_link/Collateral/425-04.PDF
footprint ONSC-SOD-123-2-425-04_V (SOD, 2-Leads, Body 2.69x1.6mm)
pins: 1 K, 2 A

## MMSZ5230BT1
designator D?
Zener Voltage Regulator, 500 mW, 2-Pin SOD-123, Tape and Reel; Manufacturer: On Semiconductor; PartNumber: MMSZ5230BT1; P Max (W): 0.5; VZ Typ (V): 4.7; DatasheetVersion: Rev. 12; PackageVersion: Rev. G, 10/2009; PackageReference: SOD-123-2-425-04; PackageDescription: 2-Pin SOD, Body 1.6 x 2.69 mm; Supplier 1: Digi-Key; Supplier Part Number 1: MMSZ5230BT1OSCT-ND; Packing: Tape and Reel; Mounting Technology: Surface Mount; ComponentLink1Description: Manufacturer URL; ComponentLink1URL: http://www.onsemi.com/; ComponentLink2Description: Datasheet; ComponentLink2URL: http://www.onsemi.com/pub_link/Collateral/MMSZ5221BT1-D.PDF; ComponentLink3Description: Package Specification; ComponentLink3URL: http://www.onsemi.com/pub_link/Collateral/425-04.PDF
footprint ONSC-SOD-123-2-425-04_V (SOD, 2-Leads, Body 2.69x1.6mm)
pins: 1 K, 2 A

## MMSZ5230BT1G
designator D?
Zener Voltage Regulator, 500 mW, 2-Pin SOD-123, Pb-Free, Tape and Reel; Manufacturer: On Semiconductor; PartNumber: MMSZ5230BT1G; P Max (W): 0.5; VZ Typ (V): 4.7; DatasheetVersion: Rev. 12; PackageVersion: Rev. G, 10/2009; PackageReference: SOD-123-2-425-04; PackageDescription: 2-Pin SOD, Body 1.6 x 2.69 mm; Supplier 1: Digi-Key; Supplier Part Number 1: MMSZ5230BT1GOSTR-ND; Supplier 2: Digi-Key; Supplier Part Number 2: MMSZ5230BT1GOSCT-ND; Supplier 3: Digi-Key; Supplier Part Number 3: MMSZ5230BT1GOSDKR-ND; Supplier 4: Farnell; Supplier Part Number 4: 1431272; Supplier 5: Farnell; Supplier Part Number 5: 1431272RL; Supplier 6: Farnell; Supplier Part Number 6: 2370826; Supplier 7: Newark; Supplier Part Number 7: 83H7423; Supplier 8: Newark; Supplier Part Number 8: 67R1368; Supplier 9: Mouser; Supplier Part Number 9: 863-MMSZ5230BT1G; Packing: Tape and Reel; RoHS: Pb-Free; Mounting Technology: Surface Mount; ComponentLink1Description: Manufacturer URL; ComponentLink1URL: http://www.onsemi.com/; ComponentLink2Description: Datasheet; ComponentLink2URL: http://www.onsemi.com/pub_link/Collateral/MMSZ5221BT1-D.PDF; ComponentLink3Description: Package Specification; ComponentLink3URL: http://www.onsemi.com/pub_link/Collateral/425-04.PDF
footprint ONSC-SOD-123-2-425-04_V (SOD, 2-Leads, Body 2.69x1.6mm)
pins: 1 K, 2 A

## MMSZ5231BT1G
designator D?
Zener Voltage Regulator, 500 mW, 2-Pin SOD-123, Pb-Free, Tape and Reel; Manufacturer: On Semiconductor; PartNumber: MMSZ5231BT1G; P Max (W): 0.5; VZ Typ (V): 5.1; DatasheetVersion: Rev. 12; PackageVersion: Rev. G, 10/2009; PackageReference: SOD-123-2-425-04; PackageDescription: 2-Pin SOD, Body 1.6 x 2.69 mm; Supplier 1: Digi-Key; Supplier Part Number 1: MMSZ5231BT1GOSTR-ND; Supplier 2: Digi-Key; Supplier Part Number 2: MMSZ5231BT1GOSCT-ND; Supplier 3: Digi-Key; Supplier Part Number 3: MMSZ5231BT1GOSDKR-ND; Supplier 4: Farnell; Supplier Part Number 4: 1431273; Supplier 5: Farnell; Supplier Part Number 5: 2317721; Supplier 6: Farnell; Supplier Part Number 6: 1431273RL; Supplier 7: Newark; Supplier Part Number 7: 83H7426; Supplier 8: Newark; Supplier Part Number 8: 67R1369; Supplier 9: Mouser; Supplier Part Number 9: 863-MMSZ5231BT1G; Packing: Tape and Reel; RoHS: Pb-Free; Mounting Technology: Surface Mount; ComponentLink1Description: Manufacturer URL; ComponentLink1URL: http://www.onsemi.com/; ComponentLink2Description: Datasheet; ComponentLink2URL: http://www.onsemi.com/pub_link/Collateral/MMSZ5221BT1-D.PDF; ComponentLink3Description: Package Specification; ComponentLink3URL: http://www.onsemi.com/pub_link/Collateral/425-04.PDF
footprint ONSC-SOD-123-2-425-04_V (SOD, 2-Leads, Body 2.69x1.6mm)
pins: 1 K, 2 A

## MMSZ5231BT3G
designator D?
Zener Voltage Regulator, 500 mW, 2-Pin SOD-123, Pb-Free, Tape and Reel; Manufacturer: On Semiconductor; PartNumber: MMSZ5231BT3G; P Max (W): 0.5; VZ Typ (V): 5.1; DatasheetVersion: Rev. 12; PackageVersion: Rev. G, 10/2009; PackageReference: SOD-123-2-425-04; PackageDescription: 2-Pin SOD, Body 1.6 x 2.69 mm; Supplier 1: Mouser; Supplier Part Number 1: N/A; Packing: Tape and Reel; RoHS: Pb-Free; Mounting Technology: Surface Mount; ComponentLink1Description: Manufacturer URL; ComponentLink1URL: http://www.onsemi.com/; ComponentLink2Description: Datasheet; ComponentLink2URL: http://www.onsemi.com/pub_link/Collateral/MMSZ5221BT1-D.PDF; ComponentLink3Description: Package Specification; ComponentLink3URL: http://www.onsemi.com/pub_link/Collateral/425-04.PDF
footprint ONSC-SOD-123-2-425-04_V (SOD, 2-Leads, Body 2.69x1.6mm)
pins: 1 K, 2 A

## MMSZ5231CT1G
designator D?
Zener Voltage Regulator, 500 mW, 2-Pin SOD-123, Pb-Free, Tape and Reel; Manufacturer: On Semiconductor; PartNumber: MMSZ5231CT1G; P Max (W): 0.5; VZ Typ (V): 5.1; DatasheetVersion: Rev. 12; PackageVersion: Rev. G, 10/2009; PackageReference: SOD-123-2-425-04; PackageDescription: 2-Pin SOD, Body 1.6 x 2.69 mm; Supplier 1: Digi-Key; Supplier Part Number 1: MMSZ5231CT1G-ND; Supplier 2: Mouser; Supplier Part Number 2: 863-MMSZ5231CT1G; Packing: Tape and Reel; RoHS: Pb-Free; Mounting Technology: Surface Mount; ComponentLink1Description: Manufacturer URL; ComponentLink1URL: http://www.onsemi.com/; ComponentLink2Description: Datasheet; ComponentLink2URL: http://www.onsemi.com/pub_link/Collateral/MMSZ5221BT1-D.PDF; ComponentLink3Description: Package Specification; ComponentLink3URL: http://www.onsemi.com/pub_link/Collateral/425-04.PDF
footprint ONSC-SOD-123-2-425-04_V (SOD, 2-Leads, Body 2.69x1.6mm)
pins: 1 K, 2 A

## MMSZ5232BT1
designator D?
Zener Voltage Regulator, 500 mW, 2-Pin SOD-123, Tape and Reel; Manufacturer: On Semiconductor; PartNumber: MMSZ5232BT1; P Max (W): 0.5; VZ Typ (V): 5.6; DatasheetVersion: Rev. 12; PackageVersion: Rev. G, 10/2009; PackageReference: SOD-123-2-425-04; PackageDescription: 2-Pin SOD, Body 1.6 x 2.69 mm; Supplier 1: Digi-Key; Supplier Part Number 1: MMSZ5232BT1OSCT-ND; Packing: Tape and Reel; Mounting Technology: Surface Mount; ComponentLink1Description: Manufacturer URL; ComponentLink1URL: http://www.onsemi.com/; ComponentLink2Description: Datasheet; ComponentLink2URL: http://www.onsemi.com/pub_link/Collateral/MMSZ5221BT1-D.PDF; ComponentLink3Description: Package Specification; ComponentLink3URL: http://www.onsemi.com/pub_link/Collateral/425-04.PDF
footprint ONSC-SOD-123-2-425-04_V (SOD, 2-Leads, Body 2.69x1.6mm)
pins: 1 K, 2 A

## MMSZ5232BT1G
designator D?
Zener Voltage Regulator, 500 mW, 2-Pin SOD-123, Pb-Free, Tape and Reel; Manufacturer: On Semiconductor; PartNumber: MMSZ5232BT1G; P Max (W): 0.5; VZ Typ (V): 5.6; DatasheetVersion: Rev. 12; PackageVersion: Rev. G, 10/2009; PackageReference: SOD-123-2-425-04; PackageDescription: 2-Pin SOD, Body 1.6 x 2.69 mm; Supplier 1: Digi-Key; Supplier Part Number 1: MMSZ5232BT1GOSTR-ND; Supplier 2: Digi-Key; Supplier Part Number 2: MMSZ5232BT1GOSCT-ND; Supplier 3: Digi-Key; Supplier Part Number 3: MMSZ5232BT1GOSDKR-ND; Supplier 4: Farnell; Supplier Part Number 4: 1431275; Supplier 5: Farnell; Supplier Part Number 5: 2317763; Supplier 6: Farnell; Supplier Part Number 6: 1431275RL; Supplier 7: Newark; Supplier Part Number 7: 67R1370; Supplier 8: Newark; Supplier Part Number 8: 88H4904; Supplier 9: Mouser; Supplier Part Number 9: 863-MMSZ5232BT1G; Packing: Tape and Reel; RoHS: Pb-Free; Mounting Technology: Surface Mount; ComponentLink1Description: Manufacturer URL; ComponentLink1URL: http://www.onsemi.com/; ComponentLink2Description: Datasheet; ComponentLink2URL: http://www.onsemi.com/pub_link/Collateral/MMSZ5221BT1-D.PDF; ComponentLink3Description: Package Specification; ComponentLink3URL: http://www.onsemi.com/pub_link/Collateral/425-04.PDF
footprint ONSC-SOD-123-2-425-04_V (SOD, 2-Leads, Body 2.69x1.6mm)
pins: 1 K, 2 A

## MMSZ5232CT1G
designator D?
Zener Voltage Regulator, 500 mW, 2-Pin SOD-123, Pb-Free, Tape and Reel; Manufacturer: On Semiconductor; PartNumber: MMSZ5232CT1G; P Max (W): 0.5; VZ Typ (V): 5.6; DatasheetVersion: Rev. 12; PackageVersion: Rev. G, 10/2009; PackageReference: SOD-123-2-425-04; PackageDescription: 2-Pin SOD, Body 1.6 x 2.69 mm; Supplier 1: Digi-Key; Supplier Part Number 1: MMSZ5232CT1G-ND; Supplier 2: Newark; Supplier Part Number 2: 07W7135; Supplier 3: Mouser; Supplier Part Number 3: 863-MMSZ5232CT1G; Packing: Tape and Reel; RoHS: Pb-Free; Mounting Technology: Surface Mount; ComponentLink1Description: Manufacturer URL; ComponentLink1URL: http://www.onsemi.com/; ComponentLink2Description: Datasheet; ComponentLink2URL: http://www.onsemi.com/pub_link/Collateral/MMSZ5221BT1-D.PDF; ComponentLink3Description: Package Specification; ComponentLink3URL: http://www.onsemi.com/pub_link/Collateral/425-04.PDF
footprint ONSC-SOD-123-2-425-04_V (SOD, 2-Leads, Body 2.69x1.6mm)
pins: 1 K, 2 A

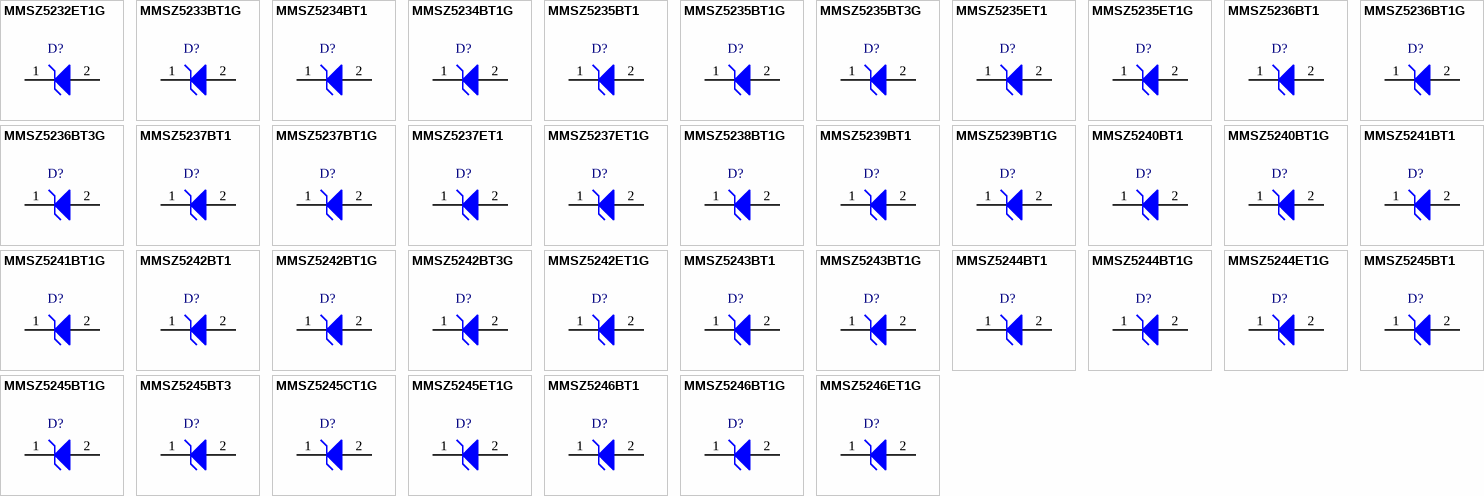
[diagram p25: symbols MMSZ5232ET1G to MMSZ5246ET1G]

## MMSZ5232ET1G
designator D?
Zener Voltage Regulator, 500 mW, 2-Pin SOD-123, Pb-Free, Tape and Reel; Manufacturer: On Semiconductor; PartNumber: MMSZ5232ET1G; P Max (W): 0.5; VZ Typ (V): 5.6; DatasheetVersion: Rev. 8; PackageVersion: Rev. G, 10/2009; PackageReference: SOD-123-2-425-04; PackageDescription: 2-Pin SOD, Body 1.6 x 2.69 mm; Supplier 1: Digi-Key; Supplier Part Number 1: MMSZ5232ET1GOS-ND; Supplier 2: Mouser; Supplier Part Number 2: 863-MMSZ5232ET1G; Packing: Tape and Reel; RoHS: Pb-Free; Mounting Technology: Surface Mount; ComponentLink1Description: Manufacturer URL; ComponentLink1URL: http://www.onsemi.com/; ComponentLink2Description: Datasheet; ComponentLink2URL: http://www.onsemi.com/pub_link/Collateral/MMSZ5221ET1-D.PDF; ComponentLink3Description: Package Specification; ComponentLink3URL: http://www.onsemi.com/pub_link/Collateral/425-04.PDF
footprint ONSC-SOD-123-2-425-04_V (SOD, 2-Leads, Body 2.69x1.6mm)
pins: 1 K, 2 A

## MMSZ5233BT1G
designator D?
Zener Voltage Regulator, 500 mW, 2-Pin SOD-123, Pb-Free, Tape and Reel; Manufacturer: On Semiconductor; PartNumber: MMSZ5233BT1G; P Max (W): 0.5; VZ Typ (V): 6.0; DatasheetVersion: Rev. 12; PackageVersion: Rev. G, 10/2009; PackageReference: SOD-123-2-425-04; PackageDescription: 2-Pin SOD, Body 1.6 x 2.69 mm; Supplier 1: Digi-Key; Supplier Part Number 1: MMSZ5233BT1GOSTR-ND; Supplier 2: Digi-Key; Supplier Part Number 2: MMSZ5233BT1GOSCT-ND; Supplier 3: Digi-Key; Supplier Part Number 3: MMSZ5233BT1GOSDKR-ND; Supplier 4: Newark; Supplier Part Number 4: 55T0911; Supplier 5: Newark; Supplier Part Number 5: 45J1595; Supplier 6: Mouser; Supplier Part Number 6: 863-MMSZ5233BT1G; Packing: Tape and Reel; RoHS: Pb-Free; Mounting Technology: Surface Mount; ComponentLink1Description: Manufacturer URL; ComponentLink1URL: http://www.onsemi.com/; ComponentLink2Description: Datasheet; ComponentLink2URL: http://www.onsemi.com/pub_link/Collateral/MMSZ5221BT1-D.PDF; ComponentLink3Description: Package Specification; ComponentLink3URL: http://www.onsemi.com/pub_link/Collateral/425-04.PDF
footprint ONSC-SOD-123-2-425-04_V (SOD, 2-Leads, Body 2.69x1.6mm)
pins: 1 K, 2 A